# EAGLE library part ADT7311WTRZ (library PDUv2)
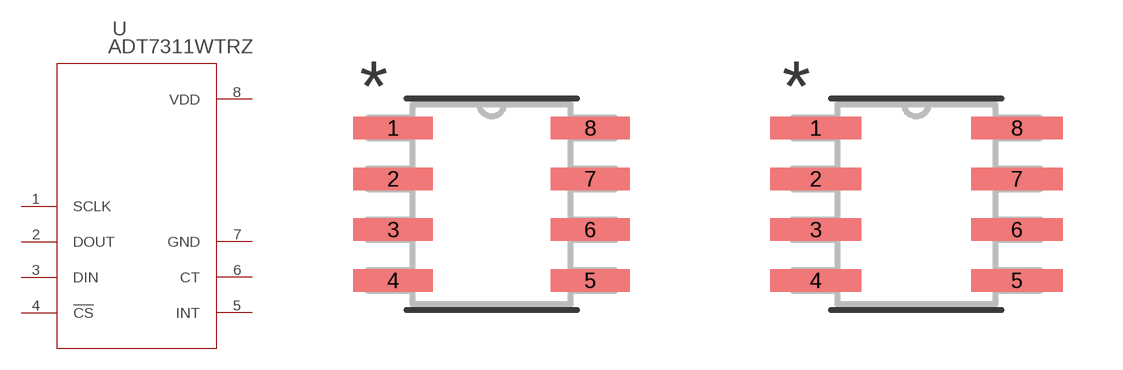
[diagram p7: symbol with the pads of R_8_ADI; footprints R_8_ADI, R_8_ADI-M]

Designator prefix U

## ADT7311WTRZ (BUILT_BY: EMA_UL_Team; MANUFACTURER_PART_NUMBER: ADT7311WTRZ; SOURCELIBRARY: Analog_2015-12-15; VENDOR: Analog Devices Inc)  [R_8_ADI]
1  SCLK  pas
2  DOUT  pas
3  DIN  pas
4  !CS  pas
5  INT  pas
6  CT  pas
7  GND  pas
8  VDD  pas

## ADT7311WTRZR_8_ADI-M (BUILT_BY: EMA_UL_Team; MANUFACTURER_PART_NUMBER: ADT7311WTRZ; SOURCELIBRARY: Analog_2015-12-15; VENDOR: Analog Devices Inc)  [R_8_ADI-M]
Pads as for R_8_ADI

## ADT7311WTRZR_8_ADI-L (BUILT_BY: EMA_UL_Team; MANUFACTURER_PART_NUMBER: ADT7311WTRZ; SOURCELIBRARY: Analog_2015-12-15; VENDOR: Analog Devices Inc)  [R_8_ADI-L]
Pads as for R_8_ADI

## Footprint R_8_ADI (pad centres in mm)
smd 1.981 x 0.559: 1 -2.464,1.905; 2 -2.464,0.635; 3 -2.464,-0.635; 4 -2.464,-1.905; 5 2.464,-1.905; 6 2.464,-0.635; 7 2.464,0.635; 8 2.464,1.905

## Footprint R_8_ADI-M (pad centres in mm)
smd 2.286 x 0.559: 1 -2.515,1.905; 2 -2.515,0.635; 3 -2.515,-0.635; 4 -2.515,-1.905; 5 2.515,-1.905; 6 2.515,-0.635; 7 2.515,0.635; 8 2.515,1.905

## Footprint R_8_ADI-L (pad centres in mm)
smd 1.676 x 0.508: 1 -2.413,1.905; 2 -2.413,0.635; 3 -2.413,-0.635; 4 -2.413,-1.905; 5 2.413,-1.905; 6 2.413,-0.635; 7 2.413,0.635; 8 2.413,1.905